# EAGLE library part AE-ESP-WROOM-02 (library PartsForProto)
Ｗｉ－Ｆｉモジュール ＤＩＰ化キット ＥＳＰ－ＷＲＯＯＭ－０２は ＥＳＰ８２６６ＥＸ（ＳｏＣ、３２ｂｉｔ ＭＣＵ）を搭載した ＷｉＦｉモジュールです。
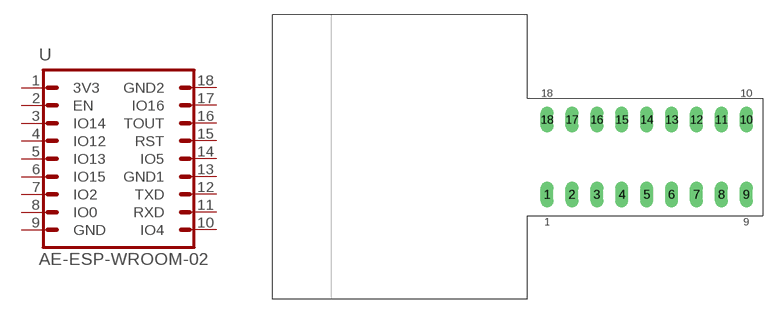
[diagram p2: symbol with the pads of DIL18_AE-ESP-WROOM-02; footprint DIL18_AE-ESP-WROOM-02]

Designator prefix U

## AE-ESP-WROOM-02  [DIL18_AE-ESP-WROOM-02]
1  3V3  pas
2  EN
3  IO14
4  IO12
5  IO13
6  IO15
7  IO2
8  IO0
9  GND  pas
10  IO4
11  RXD
12  TXD
13  GND1  pas
14  IO5
15  RST
16  TOUT
17  IO16
18  GND2  pas

## Footprint DIL18_AE-ESP-WROOM-02 (pad centres in mm)
Dual In Line package type P
drill 0.813 long: 1 0,0; 2 2.54,0; 3 5.08,0; 4 7.62,0; 5 10.16,0; 6 12.7,0; 7 15.24,0; 8 17.78,0; 9 20.32,0; 10 20.32,7.62; 11 17.78,7.62; 12 15.24,7.62; 13 12.7,7.62; 14 10.16,7.62; 15 7.62,7.62; 16 5.08,7.62; 17 2.54,7.62; 18 0,7.62